# Altium schematic symbol library 辉光钟_显示.SCHLIB: 10 symbols
Pins are listed as number, name and electrical type; pins without a type are passive.

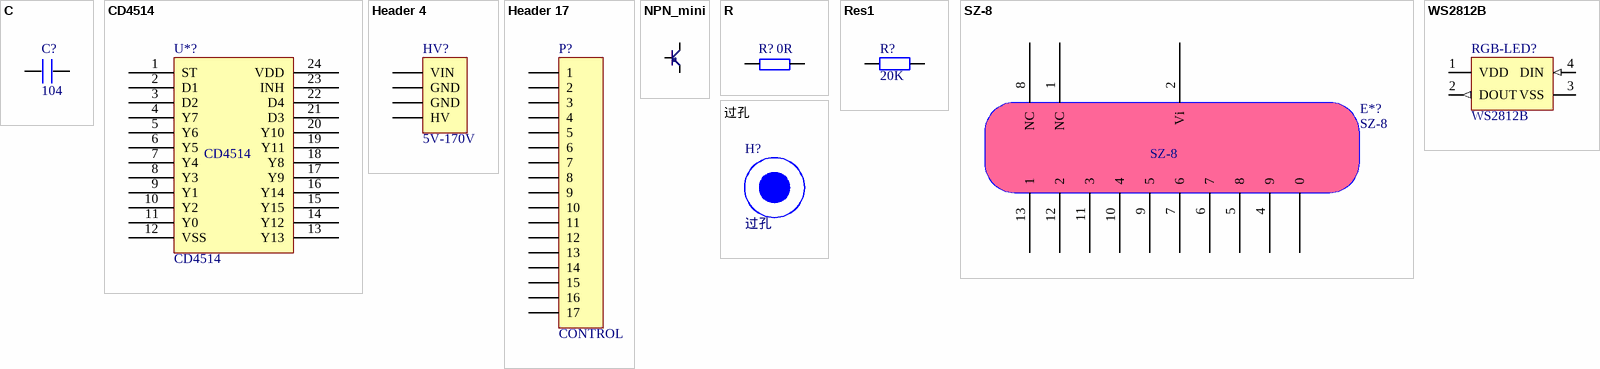
[diagram p0: symbols C to 过孔]

## C
designator C?, comment 104
footprint 0805C
pins: 1, 2

## CD4514
designator U*?
footprint SOP24
pins: 1 ST, 2 D1, 3 D2, 4 Y7, 5 Y6, 6 Y5, 7 Y4, 8 Y3, 9 Y1, 10 Y2, 11 Y0, 12 VSS, 13 Y13, 14 Y12, 15 Y15, 16 Y14, 17 Y9, 18 Y8, 19 Y11, 20 Y10, 21 D3, 22 D4, 23 INH, 24 VDD

## Header 4
designator HV?, comment 5V-170V
Header, 4-Pin; LatestRevisionDate: 17-Jul-2002; LatestRevisionNote: Re-released for DXP Platform.; Publisher: Altium Limited
signal-integrity model Connector
footprint 5V-170V
pins: 1 VIN, 2 GND, 3 GND, 4 HV

## Header 17
designator P?, comment CONTROL
Header, 17-Pin; LatestRevisionDate: 17-Jul-2002; LatestRevisionNote: Re-released for DXP Platform.; Publisher: Altium Limited
signal-integrity model Connector
footprint LOCAT
pins: 1, 2, 3, 4, 5, 6, 7, 8, 9, 10, 11, 12, 13, 14, 15, 16, 17

## NPN_mini
designator NPN*?  (value not drawn)
footprint NPN8050 SOT23R
pins: 1 B, 2 E, 3 C

## R
designator R?, comment 0R
footprint 0603R
pins: 1, 2

## Res1
designator R?  value 20K  (hidden comment: Res1)
贴片电阻; Published: 8-Jun-2000; LatestRevisionDate: 17-Jul-2002; LatestRevisionNote: Re-released for DXP Platform.; PackageReference: AXIAL-0.4; Publisher: Altium Limited
footprint 0603R
pins: 1, 2

## SZ-8
designator E*?
footprint QS30
pins: 1 NC, 2 Vi, 3 0, 4 9, 5 8, 6 7, 7 6, 8 NC, 9 5, 10 4, 11 3, 12 2, 13 1

## WS2812B
designator RGB-LED?
footprint WS2812B (WS2812B RGB LED)
pins: 1 VDD (power), 2 DOUT (out), 3 VSS (power), 4 DIN (in)

## 过孔
designator H?
footprint 定位孔